# Altium schematic symbol library PRF18AR471QB5RB.SchLib: 1 symbol
Pins are listed as number, name and electrical type; pins without a type are passive.

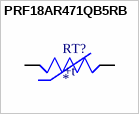
[diagram p0: symbol PRF18AR471QB5RB]

## PRF18AR471QB5RB
designator RT?
MP: PRF18AR471QB5RB; Package: None; Price: None; Value: *; Availability: Unavailable
footprint THRMC1608X95N
pins: 1, 2
text: +t